# Altium schematic symbol library zynqCoreboard_SCHLIB.SchLib: 25 symbols
Pins are listed as number, name and electrical type; pins without a type are passive.

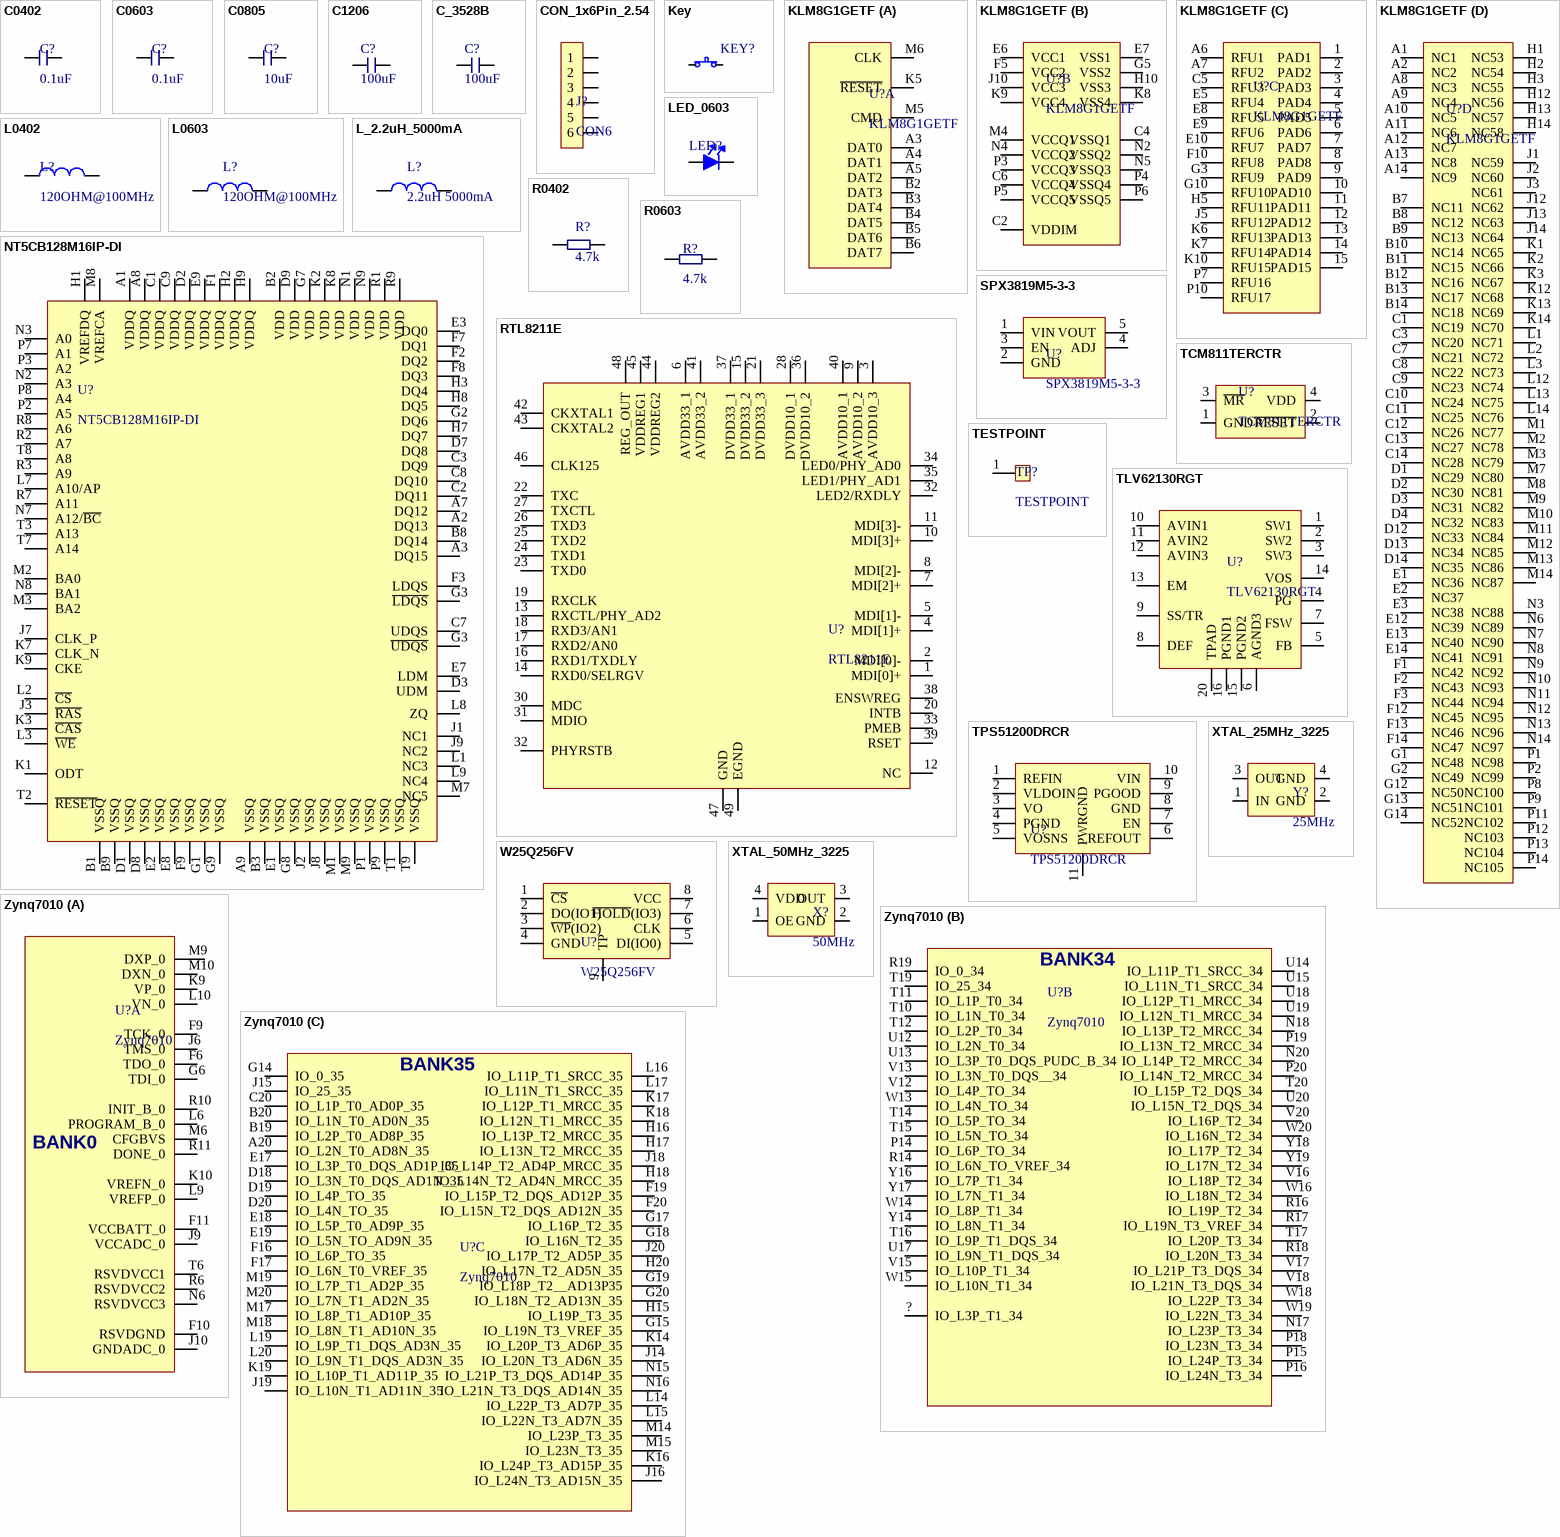
[diagram p0: symbols C0402 to Zynq7010]

## C0402
designator C?, comment 0.1uF
footprint C0402 (无极性贴片电容)
pins: 1, 2

## C0603
designator C?, comment 0.1uF
footprint C0603 (无极性贴片电容)
pins: 1, 2

## C0805
designator C?, comment 10uF
footprint C0805 (无极性贴片电容)
pins: 1, 2

## C1206
designator C?, comment 100uF
footprint C1206
pins: 1, 2

## C_3528B
designator C?, comment 100uF
footprint C1206
pins: 1, 2

## CON_1x6Pin_2.54
designator J?, comment CON6
footprint HDR2.54-LI-6P (排针，6脚)
pins: 1, 2, 3, 4, 5, 6

## Key
designator KEY?, comment Button  (value not drawn)
footprint TSW SMD-3*6*2.5 (3*6*2.5mm)
pins: 1, 2

## KLM8G1GETF
designator U?
footprint VFBGA
part A pins: A3 DAT0, A4 DAT1, A5 DAT2, B2 DAT3, B3 DAT4, B4 DAT5, B5 DAT6, B6 DAT7, K5 ~{RESET}, M5 CMD, M6 CLK
part B pins: C2 VDDIM, C4 VSSQ1, C6 VCCQ4, E6 VCC1, E7 VSS1, F5 VCC2, G5 VSS2, H10 VSS3, J10 VCC3, K8 VSS4, K9 VCC4, M4 VCCQ1, N2 VSSQ2, N4 VCCQ2, N5 VSSQ3, P3 VCCQ3, P4 VSSQ4, P5 VCCQ5, P6 VSSQ5
part C pins: 1 PAD1, 2 PAD2, 3 PAD3, 4 PAD4, 5 PAD5, 6 PAD6, 7 PAD7, 8 PAD8, 9 PAD9, 10 PAD10, 11 PAD11, 12 PAD12, 13 PAD13, 14 PAD14, 15 PAD15, A6 RFU1, A7 RFU2, C5 RFU3, E5 RFU4, E8 RFU5, E9 RFU6, E10 RFU7, F10 RFU8, G3 RFU9, G10 RFU10, H5 RFU11, J5 RFU12, K6 RFU13, K7 RFU14, K10 RFU15, P7 RFU16, P10 RFU17
part D pins: A1 NC1, A2 NC2, A8 NC3, A9 NC4, A10 NC5, A11 NC6, A12 NC7, A13 NC8, A14 NC9, B7 NC11, B8 NC12, B9 NC13, B10 NC14, B11 NC15, B12 NC16, B13 NC17, B14 NC18, C1 NC19, C3 NC20, C7 NC21, C8 NC22, C9 NC23, C10 NC24, C11 NC25, C12 NC26, C13 NC27, C14 NC28, D1 NC29, D2 NC30, D3 NC31, D4 NC32, D12 NC33, D13 NC34, D14 NC35, E1 NC36, E2 NC37, E3 NC38, E12 NC39, E13 NC40, E14 NC41, F1 NC42, F2 NC43, F3 NC44, F12 NC45, F13 NC46, F14 NC47, G1 NC48, G2 NC49, G12 NC50, G13 NC51, G14 NC52, H1 NC53, H2 NC54, H3 NC55, H12 NC56, H13 NC57, H14 NC58, J1 NC59, J2 NC60, J3 NC61, J12 NC62, J13 NC63, J14 NC64, K1 NC65, K2 NC66, K3 NC67, K12 NC68, K13 NC69, K14 NC70, L1 NC71, L2 NC72, L3 NC73, L12 NC74, L13 NC75, L14 NC76, M1 NC77, M2 NC78, M3 NC79, M7 NC80, M8 NC81, M9 NC82, M10 NC83, M11 NC84, M12 NC85, M13 NC86, M14 NC87, N3 NC88, N6 NC89, N7 NC90, N8 NC91, N9 NC92, N10 NC93, N11 NC94, N12 NC95, N13 NC96, N14 NC97, P1 NC98, P2 NC99, P8 NC100, P9 NC101, P11 NC102, P12 NC103, P13 NC104, P14 NC105

## L0402
designator L?, comment 120OHM@100MHz
footprint L0402 (小功率贴片电感)
pins: 1, 2

## L0603
designator L?, comment 120OHM@100MHz
footprint L0603 (小功率贴片电感)
pins: 1, 2

## L_2.2uH_5000mA
designator L?, comment 2.2uH 5000mA
footprint L-SMD-0630 (一体化成型电感)
pins: 1, 2

## LED_0603
designator LED?, comment LED  (value not drawn)
footprint LED 0603G (绿色0603LED)
pins: 1, 2

## NT5CB128M16IP-DI
designator U?
footprint FBGA_96
pins: A1 VDDQ, A2 DQ13, A3 DQ15, A7 DQ12, A8 VDDQ, A9 VSSQ, B1 VSSQ, B2 VDD, B3 VSSQ, B8 DQ14, B9 VSSQ, C1 VDDQ, C2 DQ11, C3 DQ9, C7 UDQS, C8 DQ10, C9 VDDQ, D1 VSSQ, D2 VDDQ, D3 UDM, D7 DQ8, D8 VSSQ, D9 VDD, E1 VSSQ, E2 VSSQ, E3 DQ0, E7 LDM, E8 VSSQ, E9 VDDQ, F1 VDDQ, F2 DQ2, F3 LDQS, F7 DQ1, F8 DQ3, F9 VSSQ, G1 VSSQ, G2 DQ6, G3 ~{LDQS}, G3 ~{UDQS}, G7 VDD, G8 VSSQ, G9 VSSQ, H1 VREFDQ, H2 VDDQ, H3 DQ4, H7 DQ7, H8 DQ5, H9 VDDQ, J1 NC1, J2 VSSQ, J3 ~{RAS}, J7 CLK_P, J8 VSSQ, J9 NC2, K1 ODT, K2 VDD, K3 ~{CAS}, K7 CLK_N, K8 VDD, K9 CKE, L1 NC3, L2 ~{CS}, L3 ~{WE}, L7 A10/AP, L8 ZQ, L9 NC4, M1 VSSQ, M2 BA0, M3 BA2, M7 NC5, M8 VREFCA, M9 VSSQ, N1 VDD, N2 A3, N3 A0, N7 A12/~{BC}, N8 BA1, N9 VDD, P1 VSSQ, P2 A5, P3 A2, P7 A1, P8 A4, P9 VSSQ, R1 VDD, R2 A7, R3 A9, R7 A11, R8 A6, R9 VDD, T1 VSSQ, T2 ~{RESET}, T3 A13, T7 A14, T8 A8, T9 VSSQ

## R0402
designator R?, comment 4.7k
footprint R0402 (1/16W高精度贴片电阻)
pins: 1, 2

## R0603
designator R?, comment 4.7k
footprint R0603 (1/10W高精度贴片电阻)
pins: 1, 2

## RTL8211E
designator U?
footprint QFN48 (RTL8211_QFN48)
pins: 1 MDI[0]+, 2 MDI[0]-, 3 AVDD10_3, 4 MDI[1]+, 5 MDI[1]-, 6 AVDD33_1, 7 MDI[2]+, 8 MDI[2]-, 9 AVDD10_2, 10 MDI[3]+, 11 MDI[3]-, 12 NC, 13 RXCTL/PHY_AD2, 14 RXD0/SELRGV, 15 DVDD33_2, 16 RXD1/TXDLY, 17 RXD2/AN0, 18 RXD3/AN1, 19 RXCLK, 20 INTB, 21 DVDD33_3, 22 TXC, 23 TXD0, 24 TXD1, 25 TXD2, 26 TXD3, 27 TXCTL, 28 DVDD10_1, 30 MDC, 31 MDIO, 32 LED2/RXDLY, 32 PHYRSTB, 33 PMEB, 34 LED0/PHY_AD0, 35 LED1/PHY_AD1, 36 DVDD10_2, 37 DVDD33_1, 38 ENSWREG, 39 RSET, 40 AVDD10_1, 41 AVDD33_2, 42 CKXTAL1, 43 CKXTAL2, 44 VDDREG2, 45 VDDREG1, 46 CLK125, 47 GND, 48 REG_OUT, 49 EGND

## SPX3819M5-3-3
designator U?
footprint SOT23-5 (3x1.6x1.1mm(长宽高))
pins: 1 VIN, 2 GND, 3 EN, 4 ADJ, 5 VOUT

## TCM811TERCTR
designator U?
footprint SOT143 (SOT-143; 4 Leads; Body 3 x 2.6 mm, inc. leads (LxW max))
pins: 1 GND, 2 ~{RESET}, 3 ~{MR}, 4 VDD

## TESTPOINT
designator TP?
footprint FPAD_1
pins: 1

## TLV62130RGT
designator U?
footprint QFN16_3x3 (3x3mm)
pins: 1 SW1, 2 SW2, 3 SW3, 4 PG, 5 FB, 6 AGND3, 7 FSW, 8 DEF, 9 SS/TR, 10 AVIN1, 11 AVIN2, 12 AVIN3, 13 EM, 14 VOS, 15 PGND2, 16 PGND1, 20 TPAD

## TPS51200DRCR
designator U?
footprint TPS_QFN10
pins: 1 REFIN, 2 VLDOIN, 3 VO, 4 PGND, 5 VOSNS, 6 REFOUT, 7 EN, 8 GND, 9 PGOOD, 10 VIN, 11 PWRGND

## W25Q256FV
designator U?
footprint W25Q256FV (PSON, 8-Leads, Body 8.00x6.00mm, Pitch 1.27mm, Thermal Pad 3.40x4.30mm, IPC Medium Density)
pins: 1 ~{CS}, 2 DO(IO1), 3 ~{WP}(IO2), 4 GND, 5 DI(IO0), 6 CLK, 7 ~{HOLD}(IO3), 8 VCC, 9 TP

## XTAL_25MHz_3225
designator Y?, comment 25MHz
footprint OSC 3225-4P (3.2*2.5*0.7mm(长宽高))
pins: 1 IN, 2 GND, 3 OUT, 4 GND

## XTAL_50MHz_3225
designator X?, comment 50MHz
footprint OSC 3225-4P (3.2*2.5*0.7mm(长宽高))
pins: 1 OE, 2 GND, 3 OUT, 4 VDD

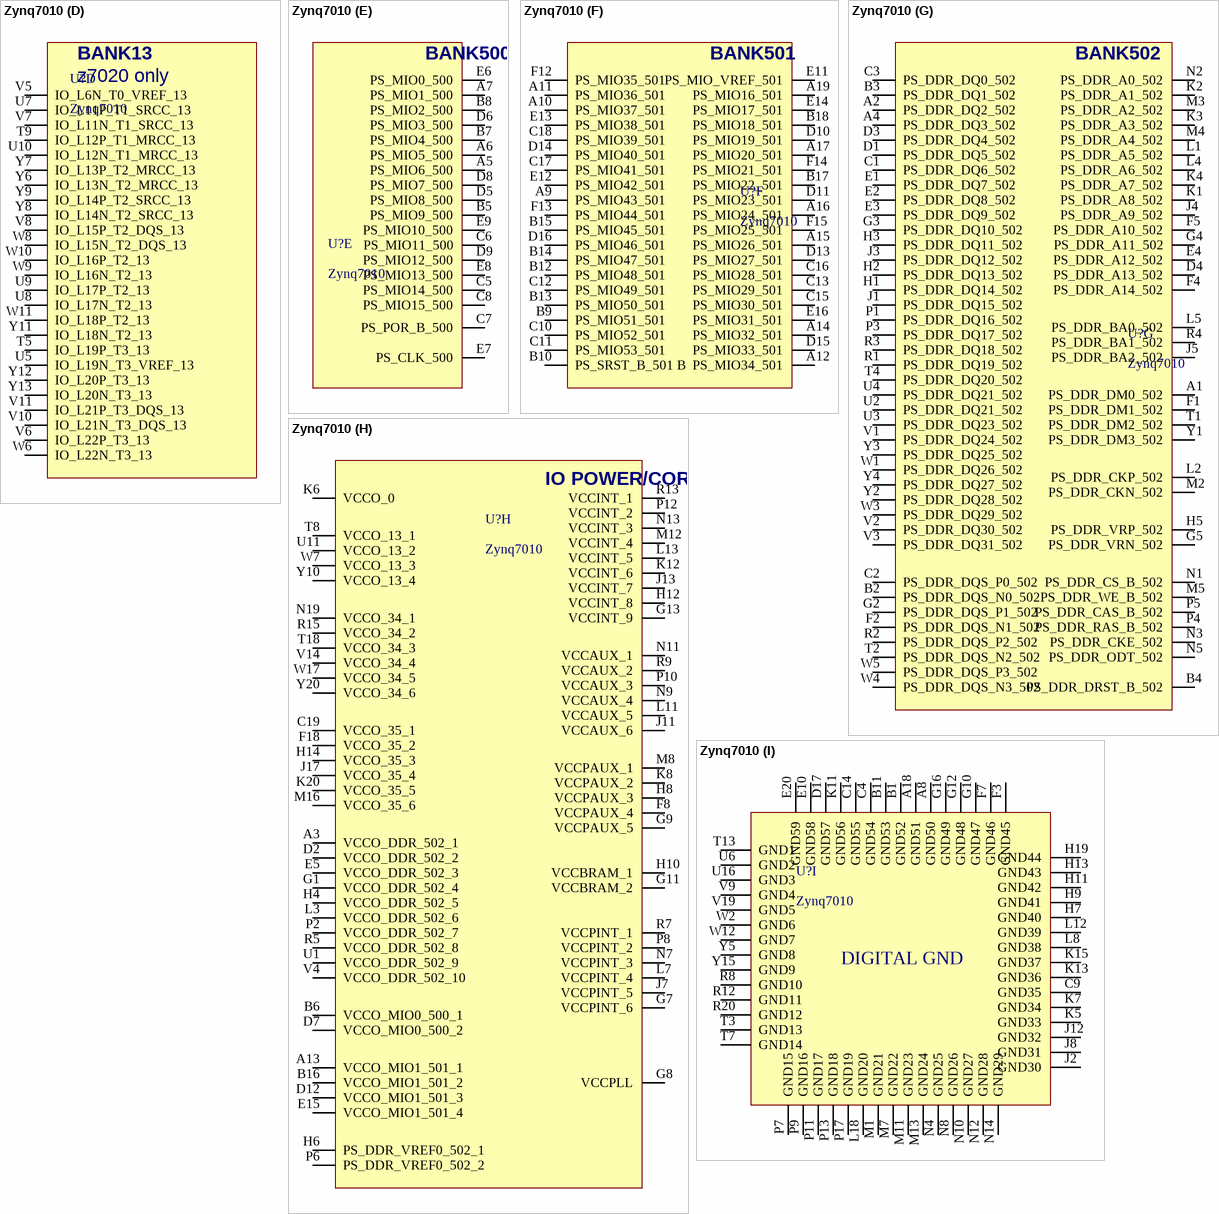
[diagram p1: symbol Zynq7010]

## Zynq7010
designator U?
footprint zynq7020CL400 (BGA, 400-Leads, Body 18.50x18.50mmx1.60mm, Pitch 0.80mm)
part A pins: F6 TDO_0, F9 TCK_0, F10 RSVDGND, F11 VCCBATT_0, G6 TDI_0, J6 TMS_0, J9 VCCADC_0, J10 GNDADC_0, K9 VP_0, K10 VREFN_0, L6 PROGRAM_B_0, L9 VREFP_0, L10 VN_0, M6 CFGBVS, M9 DXP_0, M10 DXN_0, N6 RSVDVCC3, R6 RSVDVCC2, R10 INIT_B_0, R11 DONE_0, T6 RSVDVCC1
part B pins: ? IO_L3P_T1_34, N17 IO_L23P_T3_34, N18 IO_L13P_T2_MRCC_34, N20 IO_L14P_T2_MRCC_34, P14 IO_L6P_TO_34, P15 IO_L24P_T3_34, P16 IO_L24N_T3_34, P18 IO_L23N_T3_34, P19 IO_L13N_T2_MRCC_34, P20 IO_L14N_T2_MRCC_34, R14 IO_L6N_TO_VREF_34, R16 IO_L19P_T2_34, R17 IO_L19N_T3_VREF_34, R18 IO_L20N_T3_34, R19 IO_0_34, T10 IO_L1N_T0_34, T11 IO_L1P_T0_34, T12 IO_L2P_T0_34, T14 IO_L5P_TO_34, T15 IO_L5N_TO_34, T16 IO_L9P_T1_DQS_34, T17 IO_L20P_T3_34, T19 IO_25_34, T20 IO_L15P_T2_DQS_34, U12 IO_L2N_T0_34, U13 IO_L3P_T0_DQS_PUDC_B_34, U14 IO_L11P_T1_SRCC_34, U15 IO_L11N_T1_SRCC_34, U17 IO_L9N_T1_DQS_34, U18 IO_L12P_T1_MRCC_34, U19 IO_L12N_T1_MRCC_34, U20 IO_L15N_T2_DQS_34, V12 IO_L4P_TO_34, V13 IO_L3N_T0_DQS__34, V15 IO_L10P_T1_34, V16 IO_L18P_T2_34, V17 IO_L21P_T3_DQS_34, V18 IO_L21N_T3_DQS_34, V20 IO_L16P_T2_34, W13 IO_L4N_TO_34, W14 IO_L8P_T1_34, W15 IO_L10N_T1_34, W16 IO_L18N_T2_34, W18 IO_L22P_T3_34, W19 IO_L22N_T3_34, W20 IO_L16N_T2_34, Y14 IO_L8N_T1_34, Y16 IO_L7P_T1_34, Y17 IO_L7N_T1_34, Y18 IO_L17P_T2_34, Y19 IO_L17N_T2_34
part C pins: A20 IO_L2N_T0_AD8N_35, B19 IO_L2P_T0_AD8P_35, B20 IO_L1N_T0_AD0N_35, C20 IO_L1P_T0_AD0P_35, D18 IO_L3N_T0_DQS_AD1N_35, D19 IO_L4P_TO_35, D20 IO_L4N_TO_35, E17 IO_L3P_T0_DQS_AD1P_35, E18 IO_L5P_T0_AD9P_35, E19 IO_L5N_TO_AD9N_35, F16 IO_L6P_TO_35, F17 IO_L6N_T0_VREF_35, F19 IO_L15P_T2_DQS_AD12P_35, F20 IO_L15N_T2_DQS_AD12N_35, G14 IO_0_35, G15 IO_L19N_T3_VREF_35, G17 IO_L16P_T2_35, G18 IO_L16N_T2_35, G19 IO_L18P_T2__AD13P35, G20 IO_L18N_T2_AD13N_35, H15 IO_L19P_T3_35, H16 IO_L13P_T2_MRCC_35, H17 IO_L13N_T2_MRCC_35, H18 IO_L14N_T2_AD4N_MRCC_35, H20 IO_L17N_T2_AD5N_35, J14 IO_L20N_T3_AD6N_35, J15 IO_25_35, J16 IO_L24N_T3_AD15N_35, J18 IO_L14P_T2_AD4P_MRCC_35, J19 IO_L10N_T1_AD11N_35, J20 IO_L17P_T2_AD5P_35, K14 IO_L20P_T3_AD6P_35, K16 IO_L24P_T3_AD15P_35, K17 IO_L12P_T1_MRCC_35, K18 IO_L12N_T1_MRCC_35, K19 IO_L10P_T1_AD11P_35, L14 IO_L22P_T3_AD7P_35, L15 IO_L22N_T3_AD7N_35, L16 IO_L11P_T1_SRCC_35, L17 IO_L11N_T1_SRCC_35, L19 IO_L9P_T1_DQS_AD3N_35, L20 IO_L9N_T1_DQS_AD3N_35, M14 IO_L23P_T3_35, M15 IO_L23N_T3_35, M17 IO_L8P_T1_AD10P_35, M18 IO_L8N_T1_AD10N_35, M19 IO_L7P_T1_AD2P_35, M20 IO_L7N_T1_AD2N_35, N15 IO_L21P_T3_DQS_AD14P_35, N16 IO_L21N_T3_DQS_AD14N_35
part D pins: T5 IO_L19P_T3_13, T9 IO_L12P_T1_MRCC_13, U5 IO_L19N_T3_VREF_13, U7 IO_L11P_T1_SRCC_13, U8 IO_L17N_T2_13, U9 IO_L17P_T2_13, U10 IO_L12N_T1_MRCC_13, V5 IO_L6N_T0_VREF_13, V6 IO_L22P_T3_13, V7 IO_L11N_T1_SRCC_13, V8 IO_L15P_T2_DQS_13, V10 IO_L21N_T3_DQS_13, V11 IO_L21P_T3_DQS_13, W6 IO_L22N_T3_13, W8 IO_L15N_T2_DQS_13, W9 IO_L16N_T2_13, W10 IO_L16P_T2_13, W11 IO_L18P_T2_13, Y6 IO_L13N_T2_MRCC_13, Y7 IO_L13P_T2_MRCC_13, Y8 IO_L14N_T2_SRCC_13, Y9 IO_L14P_T2_SRCC_13, Y11 IO_L18N_T2_13, Y12 IO_L20P_T3_13, Y13 IO_L20N_T3_13
part E pins: A5 PS_MIO6_500, A6 PS_MIO5_500, A7 PS_MIO1_500, B5 PS_MIO9_500, B7 PS_MIO4_500, B8 PS_MIO2_500, C5 PS_MIO14_500, C6 PS_MIO11_500, C7 PS_POR_B_500, C8 PS_MIO15_500, D5 PS_MIO8_500, D6 PS_MIO3_500, D8 PS_MIO7_500, D9 PS_MIO12_500, E6 PS_MIO0_500, E7 PS_CLK_500, E8 PS_MIO13_500, E9 PS_MIO10_500
part F pins: A9 PS_MIO43_501, A10 PS_MIO37_501, A11 PS_MIO36_501, A12 PS_MIO34_501, A14 PS_MIO32_501, A15 PS_MIO26_501, A16 PS_MIO24_501, A17 PS_MIO20_501, A19 PS_MIO16_501, B9 PS_MIO51_501, B10 PS_SRST_B_501 B, B12 PS_MIO48_501, B13 PS_MIO50_501, B14 PS_MIO47_501, B15 PS_MIO45_501, B17 PS_MIO22_501, B18 PS_MIO18_501, C10 PS_MIO52_501, C11 PS_MIO53_501, C12 PS_MIO49_501, C13 PS_MIO29_501, C15 PS_MIO30_501, C16 PS_MIO28_501, C17 PS_MIO41_501, C18 PS_MIO39_501, D10 PS_MIO19_501, D11 PS_MIO23_501, D13 PS_MIO27_501, D14 PS_MIO40_501, D15 PS_MIO33_501, D16 PS_MIO46_501, E11 PS_MIO_VREF_501, E12 PS_MIO42_501, E13 PS_MIO38_501, E14 PS_MIO17_501, E16 PS_MIO31_501, F12 PS_MIO35_501, F13 PS_MIO44_501, F14 PS_MIO21_501, F15 PS_MIO25_501
part G pins: A1 PS_DDR_DM0_502, A2 PS_DDR_DQ2_502, A4 PS_DDR_DQ3_502, B2 PS_DDR_DQS_N0_502, B3 PS_DDR_DQ1_502, B4 PS_DDR_DRST_B_502, C1 PS_DDR_DQ6_502, C2 PS_DDR_DQS_P0_502, C3 PS_DDR_DQ0_502, D1 PS_DDR_DQ5_502, D3 PS_DDR_DQ4_502, D4 PS_DDR_A13_502, E1 PS_DDR_DQ7_502, E2 PS_DDR_DQ8_502, E3 PS_DDR_DQ9_502, E4 PS_DDR_A12_502, F1 PS_DDR_DM1_502, F2 PS_DDR_DQS_N1_502, F4 PS_DDR_A14_502, F5 PS_DDR_A10_502, G2 PS_DDR_DQS_P1_502, G3 PS_DDR_DQ10_502, G4 PS_DDR_A11_502, G5 PS_DDR_VRN_502, H1 PS_DDR_DQ14_502, H2 PS_DDR_DQ13_502, H3 PS_DDR_DQ11_502, H5 PS_DDR_VRP_502, J1 PS_DDR_DQ15_502, J3 PS_DDR_DQ12_502, J4 PS_DDR_A9_502, J5 PS_DDR_BA2_502, K1 PS_DDR_A8_502, K2 PS_DDR_A1_502, K3 PS_DDR_A3_502, K4 PS_DDR_A7_502, L1 PS_DDR_A5_502, L2 PS_DDR_CKP_502, L4 PS_DDR_A6_502, L5 PS_DDR_BA0_502, M2 PS_DDR_CKN_502, M3 PS_DDR_A2_502, M4 PS_DDR_A4_502, M5 PS_DDR_WE_B_502, N1 PS_DDR_CS_B_502, N2 PS_DDR_A0_502, N3 PS_DDR_CKE_502, N5 PS_DDR_ODT_502, P1 PS_DDR_DQ16_502, P3 PS_DDR_DQ17_502, P4 PS_DDR_RAS_B_502, P5 PS_DDR_CAS_B_502, R1 PS_DDR_DQ19_502, R2 PS_DDR_DQS_P2_502, R3 PS_DDR_DQ18_502, R4 PS_DDR_BA1_502, T1 PS_DDR_DM2_502, T2 PS_DDR_DQS_N2_502, T4 PS_DDR_DQ20_502, U2 PS_DDR_DQ21_502, U3 PS_DDR_DQ23_502, U4 PS_DDR_DQ21_502, V1 PS_DDR_DQ24_502, V2 PS_DDR_DQ30_502, V3 PS_DDR_DQ31_502, W1 PS_DDR_DQ26_502, W3 PS_DDR_DQ29_502, W4 PS_DDR_DQS_N3_502, W5 PS_DDR_DQS_P3_502, Y1 PS_DDR_DM3_502, Y2 PS_DDR_DQ28_502, Y3 PS_DDR_DQ25_502, Y4 PS_DDR_DQ27_502
part H pins: A3 VCCO_DDR_502_1, A13 VCCO_MIO1_501_1, B6 VCCO_MIO0_500_1, B16 VCCO_MIO1_501_2, C19 VCCO_35_1, D2 VCCO_DDR_502_2, D7 VCCO_MIO0_500_2, D12 VCCO_MIO1_501_3, E5 VCCO_DDR_502_3, E15 VCCO_MIO1_501_4, F8 VCCPAUX_4, F18 VCCO_35_2, G1 VCCO_DDR_502_4, G7 VCCPINT_6, G8 VCCPLL, G9 VCCPAUX_5, G11 VCCBRAM_2, G13 VCCINT_9, H4 VCCO_DDR_502_5, H6 PS_DDR_VREF0_502_1, H8 VCCPAUX_3, H10 VCCBRAM_1, H12 VCCINT_8, H14 VCCO_35_3, J7 VCCPINT_5, J11 VCCAUX_6, J13 VCCINT_7, J17 VCCO_35_4, K6 VCCO_0, K8 VCCPAUX_2, K12 VCCINT_6, K20 VCCO_35_5, L3 VCCO_DDR_502_6, L7 VCCPINT_4, L11 VCCAUX_5, L13 VCCINT_5, M8 VCCPAUX_1, M12 VCCINT_4, M16 VCCO_35_6, N7 VCCPINT_3, N9 VCCAUX_4, N11 VCCAUX_1, N13 VCCINT_3, N19 VCCO_34_1, P2 VCCO_DDR_502_7, P6 PS_DDR_VREF0_502_2, P8 VCCPINT_2, P10 VCCAUX_3, P12 VCCINT_2, R5 VCCO_DDR_502_8, R7 VCCPINT_1, R9 VCCAUX_2, R13 VCCINT_1, R15 VCCO_34_2, T8 VCCO_13_1, T18 VCCO_34_3, U1 VCCO_DDR_502_9, U11 VCCO_13_2, V4 VCCO_DDR_502_10, V14 VCCO_34_4, W7 VCCO_13_3, W17 VCCO_34_5, Y10 VCCO_13_4, Y20 VCCO_34_6
part I pins: A8 GND50, A18 GND51, B1 GND52, B11 GND53, C4 GND54, C9 GND35, C14 GND55, D17 GND57, E10 GND58, E20 GND59, F3 GND45, F7 GND46, G10 GND47, G12 GND48, G16 GND49, H7 GND40, H9 GND41, H11 GND42, H13 GND43, H19 GND44, J2 GND30, J8 GND31, J12 GND32, K5 GND33, K7 GND34, K11 GND56, K13 GND36, K15 GND37, L8 GND38, L12 GND39, L18 GND20, M1 GND21, M7 GND22, M11 GND23, M13 GND24, N4 GND25, N8 GND26, N10 GND27, N12 GND28, N14 GND29, P7 GND15, P9 GND16, P11 GND17, P13 GND18, P17 GND19, R8 GND10, R12 GND11, R20 GND12, T3 GND13, T7 GND14, T13 GND1, U6 GND2, U16 GND3, V9 GND4, V19 GND5, W2 GND6, W12 GND7, Y5 GND8, Y15 GND9
part A text: BANK0
part B text: BANK34
part C text: BANK35
part D text: BANK13; z7020 only
part E text: BANK500
part F text: BANK501
part G text: BANK502
part H text: IO POWER/CORE POWER
part I text: DIGITAL GND